# EAGLE library part FTDI_PROGRAMMER (library nerdvellous-connectors)
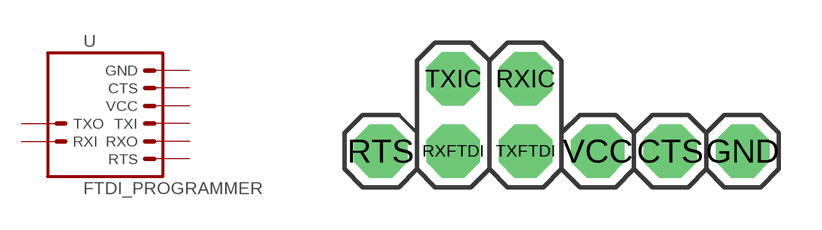
[diagram p4: symbol with the pads of FTDI_CABLE_JUMPER; footprint FTDI_CABLE_JUMPER]

Designator prefix -

## FTDI_PROGRAMMER  [FTDI_CABLE_JUMPER]
CTS  CTS  pas
GND  GND  pas
RTS  RTS  pas
RXFTDI  TXI  pas
RXIC  RXI
TXFTDI  RXO  pas
TXIC  TXO
VCC  VCC  pas

## Footprint FTDI_CABLE_JUMPER (pad centres in mm)
drill 1.016 pad 1.88 octagon: CTS 10.16,0; GND 12.7,0; RTS 0,0; RXFTDI 2.54,0; RXIC 5.08,2.54; TXFTDI 5.08,0; TXIC 2.54,2.54; VCC 7.62,0